# EAGLE library part 47352-1001 (library 47352-1001)
1.10mm Pitch microSD Card Connector, Push-Push Type, with VSS (Supply Voltage Ground) Detect Switch, Lead-Free
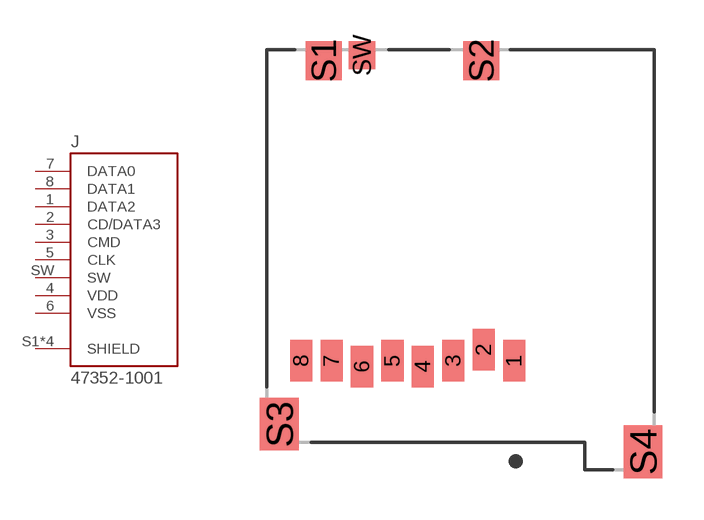
[diagram p0: symbol with the pads of MOLEX_47352-1001; footprint MOLEX_47352-1001]

Designator prefix J

## 47352-1001 (Description: 8 (6 + 2) Position Card Connector Secure Digital - microSD™ Surface Mount, Right Angle Gold; Digi-Key_Part_Number: WM3290CT-ND; MF: Molex; MP: 47352-1001; Package: None; Purchase-URL: https://pricing.snapeda.com/search/part/47352-1001/?ref=eda)  [MOLEX_47352-1001]
1  DATA2  pas
2  CD/DATA3  pas
3  CMD  pas
4  VDD  pas
5  CLK  pas
6  VSS  pas
7  DATA0  pas
8  DATA1  pas
S1  SHIELD  pas
S2  SHIELD  pas
S3  SHIELD  pas
S4  SHIELD  pas
SW  SW  pas

## Footprint MOLEX_47352-1001 (pad centres in mm)
smd 0.8 x 1.5: 1 1.94,-3.66; 2 0.84,-3.26; 3 -0.26,-3.66; 4 -1.36,-3.86; 5 -2.46,-3.66; 6 -3.56,-3.86; 7 -4.66,-3.66; 8 -5.76,-3.66
smd 1.3 x 1.4: S1 -4.95,7.2; S2 0.75,7.2
smd 1.4 x 1.9: S3 -6.55,-5.95; S4 6.6,-6.95
smd 0.95 x 1: SW -3.56,7.4